# Altium schematic symbol library PI5A4626TX.SchLib: 1 symbol
Pins are listed as number, name and electrical type; pins without a type are passive.

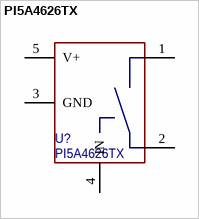
[diagram p0: symbol PI5A4626TX]

## PI5A4626TX
designator U?
pins: 1 COM, 2 NO, 3 GND, 4 IN, 5 V+